# Altium footprint library NYS2162U.PcbLib: 1 footprints
Each footprint in its own frame and in the unit in brackets; x right, y up, seen from the top. Pads: shape width x height; smd on the part's side, far side on the other; paste and mask are expansions set on the pad; w line width, h text height; cw(c..) or ccw(c..) is an arc to the next point about the centre after c.
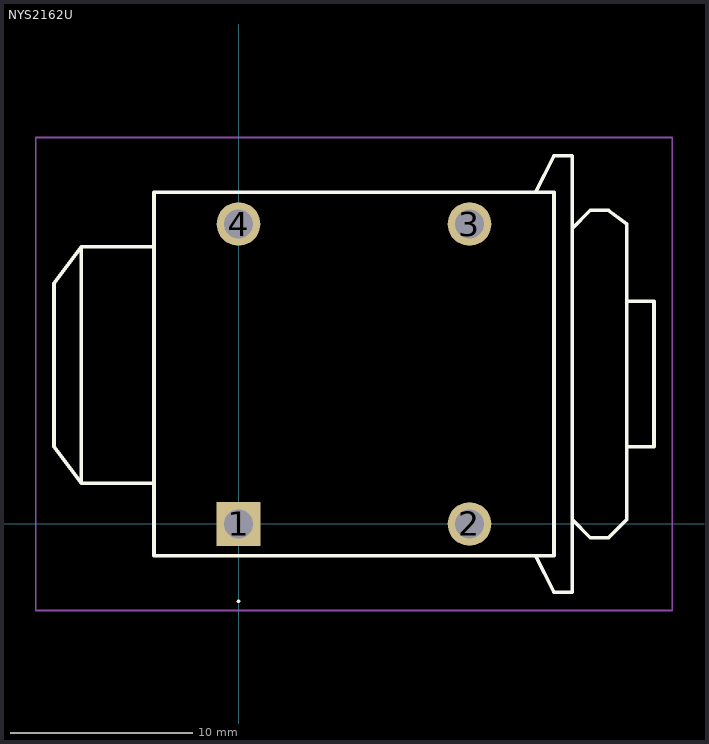
[diagram p0: the footprint, top view; thin cyan lines are the x and y axes]

## NYS2162U [mm]
pads (4):
  rect 2.4x2.4 hole 1.6: 1(0,0)
  round 2.4 hole 1.6: 2(12.7,0) 3(12.7,16.5) 4(0,16.5)
Top Overlay:
  lines w0.1: 0,-4.3 cw(c0,-4.25) 0,-4.2 ; 0,-4.3 0,-4.3 ; 0,-4.3 ccw(c0,-4.25) 0,-4.2 ; 0,-4.2 0,-4.2
  lines w0.2: -4.65,2.25 -8.65,2.25 ; -4.65,15.25 -8.65,15.25 ; 16.35,-1.75 17.35,-3.75 18.35,-3.75 18.35,20.25 17.35,20.25 16.35,18.25 ; 18.35,0.25 19.35,-0.75 20.35,-0.75 21.35,0.25 21.35,16.5 20.35,17.25 19.35,17.25 18.35,16.25 ; 21.35,4.25 22.85,4.25 22.85,12.25 21.35,12.25 ; -8.65,2.25 -10.15,4.25 -10.15,13.25 -8.65,15.25 ; -8.65,2.25 -8.65,15.25 ; -4.65,-1.75 17.35,-1.75 17.35,18.25 -4.65,18.25 -4.65,-1.75
Mechanical 15:
  lines w0.1: -4.65,2.25 -8.65,2.25 ; -4.65,15.25 -8.65,15.25 ; 16.35,-1.75 17.35,-3.75 18.35,-3.75 18.35,20.25 17.35,20.25 16.35,18.25 ; 18.35,0.25 19.35,-0.75 20.35,-0.75 21.35,0.25 21.35,16.5 20.35,17.25 19.35,17.25 18.35,16.25 ; 21.35,4.25 22.85,4.25 22.85,12.25 21.35,12.25 ; -8.65,2.25 -10.15,4.25 -10.15,13.25 -8.65,15.25 ; -8.65,2.25 -8.65,15.25 ; -4.65,-1.75 17.35,-1.75 17.35,18.25 -4.65,18.25 -4.65,-1.75
Mechanical 20:
  lines w0.1: -11.15,-4.75 23.85,-4.75 23.85,21.25 -11.15,21.25 -11.15,-4.75